# EAGLE library part STM32F103T8TX (library ST Microelectronics)
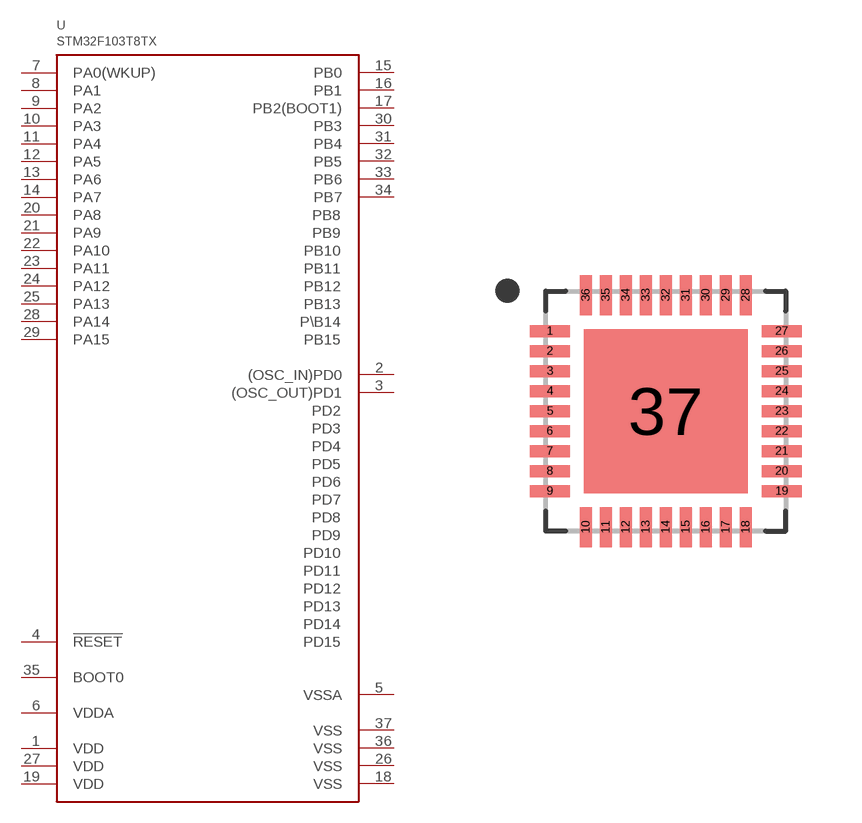
[diagram p2: symbol with the pads of QFN36; footprint QFN36]

Designator prefix U

## STM32F103T8TX  [QFN36]
1  VDD  pwr
2  (OSC_IN)PD0  in
3  (OSC_OUT)PD1  out
4  !RESET  out
5  VSSA  pas
6  VDDA  pwr
7  PA0(WKUP)
8  PA1
9  PA2
10  PA3
11  PA4
12  PA5
13  PA6
14  PA7
15  PB0
16  PB1
17  PB2(BOOT1)
18  VSS  pas
19  VDD  pwr
20  PA8
21  PA9
22  PA10
23  PA11
24  PA12
25  PA13
26  VSS  pas
27  VDD  pwr
28  PA14
29  PA15
30  PB3
31  PB4
32  PB5
33  PB6
34  PB7
35  BOOT0  pas
36  VSS  pas
37  VSS  pas

## Footprint QFN36 (pad centres in mm)
smd 1 x 0.3: 1 -2.9,2; 2 -2.9,1.5; 3 -2.9,1; 4 -2.9,0.5; 5 -2.9,0; 6 -2.9,-0.5; 7 -2.9,-1; 8 -2.9,-1.5; 9 -2.9,-2; 19 2.9,-2; 20 2.9,-1.5; 21 2.9,-1; 22 2.9,-0.5; 23 2.9,0; 24 2.9,0.5; 25 2.9,1; 26 2.9,1.5; 27 2.9,2
smd 0.3 x 1: 10 -2,-2.9; 11 -1.5,-2.9; 12 -1,-2.9; 13 -0.5,-2.9; 14 0,-2.9; 15 0.5,-2.9; 16 1,-2.9; 17 1.5,-2.9; 18 2,-2.9; 28 2,2.9; 29 1.5,2.9; 30 1,2.9; 31 0.5,2.9; 32 0,2.9; 33 -0.5,2.9; 34 -1,2.9; 35 -1.5,2.9; 36 -2,2.9
smd 4.1 x 4.1: 37 0,0